# Altium schematic symbol library SCH - MCU - STM32 - ST MICROELECTRONICS STM32F217I(E-G)HX UFBGA176.SchLib: 1 symbol
Pins are listed as number, name and electrical type; pins without a type are passive.

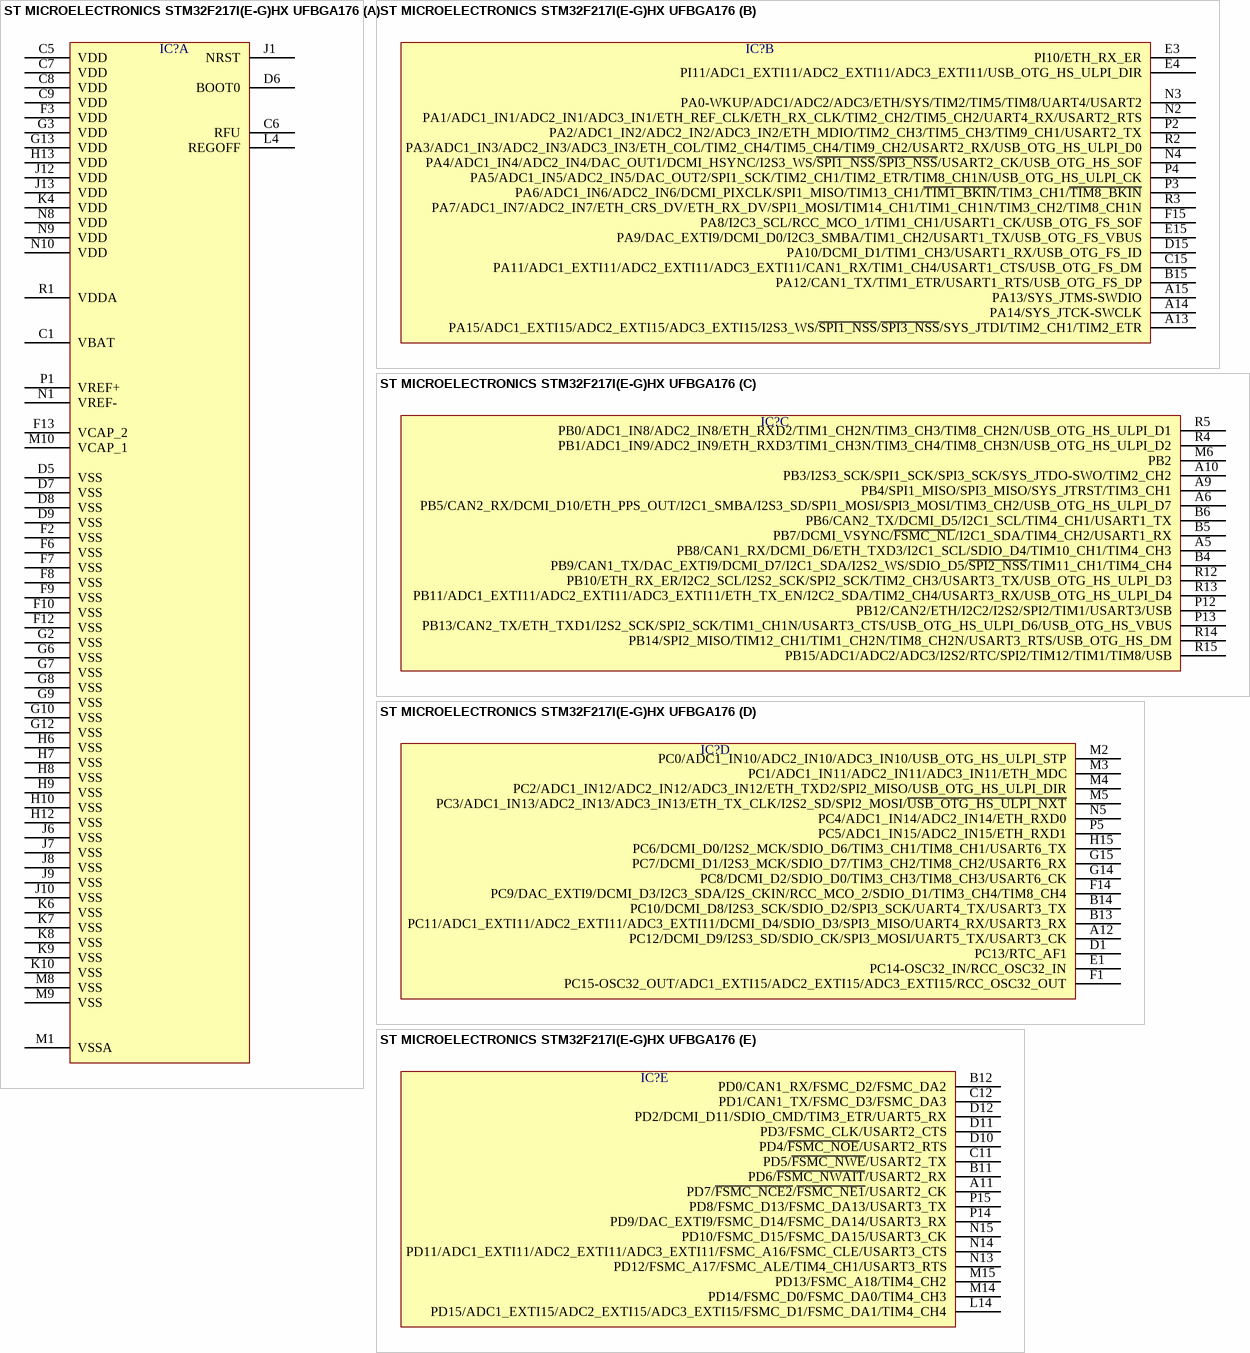
[diagram p0: symbol ST MICROELECTRONICS STM32F217I(E-G)HX UFBGA176]

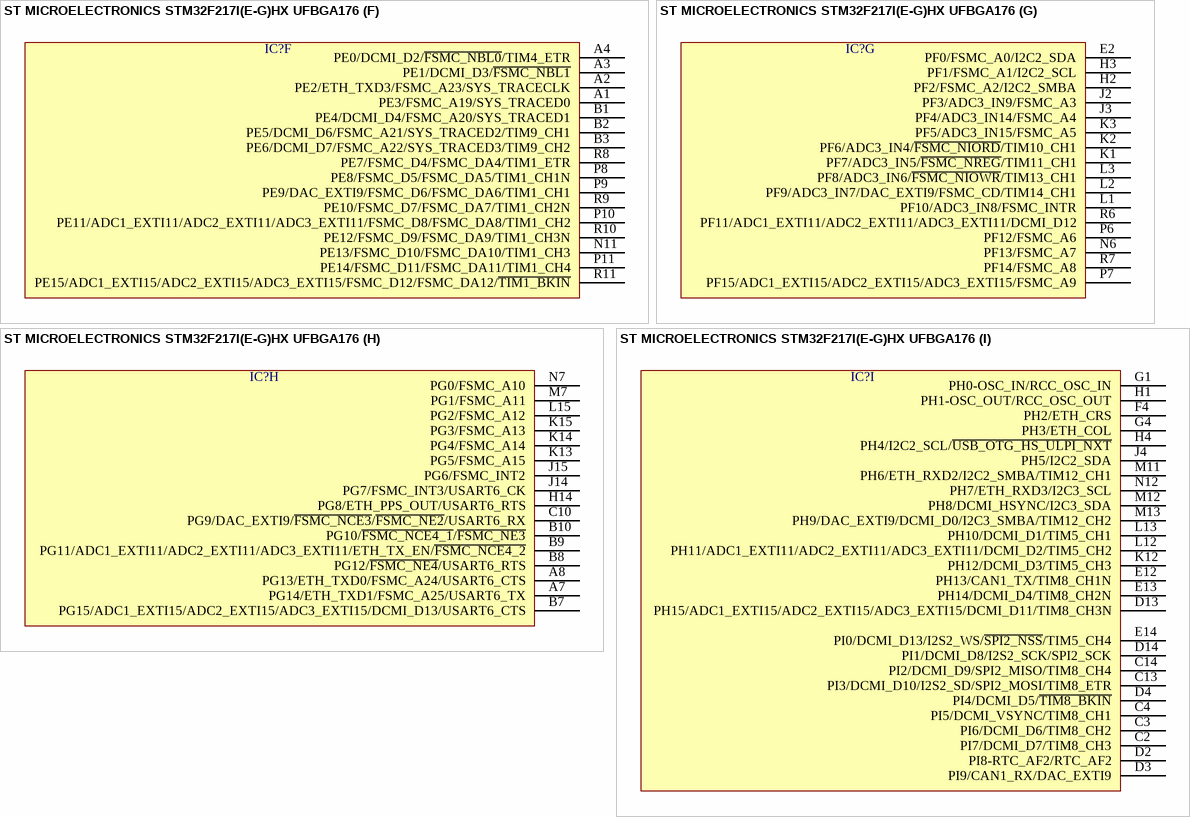
[diagram p1: symbol ST MICROELECTRONICS STM32F217I(E-G)HX UFBGA176]

## ST MICROELECTRONICS STM32F217I(E-G)HX UFBGA176
designator IC?  (value not drawn)
part A pins: C1 VBAT, C5 VDD, C6 RFU, C7 VDD, C8 VDD, C9 VDD, D5 VSS, D6 BOOT0, D7 VSS, D8 VSS, D9 VSS, F2 VSS, F3 VDD, F6 VSS, F7 VSS, F8 VSS, F9 VSS, F10 VSS, F12 VSS, F13 VCAP_2, G2 VSS, G3 VDD, G6 VSS, G7 VSS, G8 VSS, G9 VSS, G10 VSS, G12 VSS, G13 VDD, H6 VSS, H7 VSS, H8 VSS, H9 VSS, H10 VSS, H12 VSS, H13 VDD, J1 NRST, J6 VSS, J7 VSS, J8 VSS, J9 VSS, J10 VSS, J12 VDD, J13 VDD, K4 VDD, K6 VSS, K7 VSS, K8 VSS, K9 VSS, K10 VSS, L4 REGOFF, M1 VSSA, M8 VSS, M9 VSS, M10 VCAP_1, N1 VREF-, N8 VDD, N9 VDD, N10 VDD, P1 VREF+, R1 VDDA
part B pins: A13 PA15/ADC1_EXTI15/ADC2_EXTI15/ADC3_EXTI15/I2S3_WS/~{SPI1_NSS}/~{SPI3_NSS}/SYS_JTDI/TIM2_CH1/TIM2_ETR, A14 PA14/SYS_JTCK-SWCLK, A15 PA13/SYS_JTMS-SWDIO, B15 PA12/CAN1_TX/TIM1_ETR/USART1_RTS/USB_OTG_FS_DP, C15 PA11/ADC1_EXTI11/ADC2_EXTI11/ADC3_EXTI11/CAN1_RX/TIM1_CH4/USART1_CTS/USB_OTG_FS_DM, D15 PA10/DCMI_D1/TIM1_CH3/USART1_RX/USB_OTG_FS_ID, E3 PI10/ETH_RX_ER, E4 PI11/ADC1_EXTI11/ADC2_EXTI11/ADC3_EXTI11/USB_OTG_HS_ULPI_DIR, E15 PA9/DAC_EXTI9/DCMI_D0/I2C3_SMBA/TIM1_CH2/USART1_TX/USB_OTG_FS_VBUS, F15 PA8/I2C3_SCL/RCC_MCO_1/TIM1_CH1/USART1_CK/USB_OTG_FS_SOF, N2 PA1/ADC1_IN1/ADC2_IN1/ADC3_IN1/ETH_REF_CLK/ETH_RX_CLK/TIM2_CH2/TIM5_CH2/UART4_RX/USART2_RTS, N3 PA0-WKUP/ADC1/ADC2/ADC3/ETH/SYS/TIM2/TIM5/TIM8/UART4/USART2, N4 PA4/ADC1_IN4/ADC2_IN4/DAC_OUT1/DCMI_HSYNC/I2S3_WS/~{SPI1_NSS}/~{SPI3_NSS}/USART2_CK/USB_OTG_HS_SOF, P2 PA2/ADC1_IN2/ADC2_IN2/ADC3_IN2/ETH_MDIO/TIM2_CH3/TIM5_CH3/TIM9_CH1/USART2_TX, P3 PA6/ADC1_IN6/ADC2_IN6/DCMI_PIXCLK/SPI1_MISO/TIM13_CH1/~{TIM1_BKIN}/TIM3_CH1/~{TIM8_BKIN}, P4 PA5/ADC1_IN5/ADC2_IN5/DAC_OUT2/SPI1_SCK/TIM2_CH1/TIM2_ETR/TIM8_CH1N/USB_OTG_HS_ULPI_CK, R2 PA3/ADC1_IN3/ADC2_IN3/ADC3_IN3/ETH_COL/TIM2_CH4/TIM5_CH4/TIM9_CH2/USART2_RX/USB_OTG_HS_ULPI_D0, R3 PA7/ADC1_IN7/ADC2_IN7/ETH_CRS_DV/ETH_RX_DV/SPI1_MOSI/TIM14_CH1/TIM1_CH1N/TIM3_CH2/TIM8_CH1N
part C pins: A5 PB8/CAN1_RX/DCMI_D6/ETH_TXD3/I2C1_SCL/SDIO_D4/TIM10_CH1/TIM4_CH3, A6 PB5/CAN2_RX/DCMI_D10/ETH_PPS_OUT/I2C1_SMBA/I2S3_SD/SPI1_MOSI/SPI3_MOSI/TIM3_CH2/USB_OTG_HS_ULPI_D7, A9 PB4/SPI1_MISO/SPI3_MISO/SYS_JTRST/TIM3_CH1, A10 PB3/I2S3_SCK/SPI1_SCK/SPI3_SCK/SYS_JTDO-SWO/TIM2_CH2, B4 PB9/CAN1_TX/DAC_EXTI9/DCMI_D7/I2C1_SDA/I2S2_WS/SDIO_D5/~{SPI2_NSS}/TIM11_CH1/TIM4_CH4, B5 PB7/DCMI_VSYNC/~{FSMC_NL}/I2C1_SDA/TIM4_CH2/USART1_RX, B6 PB6/CAN2_TX/DCMI_D5/I2C1_SCL/TIM4_CH1/USART1_TX, M6 PB2, P12 PB12/CAN2/ETH/I2C2/I2S2/SPI2/TIM1/USART3/USB, P13 PB13/CAN2_TX/ETH_TXD1/I2S2_SCK/SPI2_SCK/TIM1_CH1N/USART3_CTS/USB_OTG_HS_ULPI_D6/USB_OTG_HS_VBUS, R4 PB1/ADC1_IN9/ADC2_IN9/ETH_RXD3/TIM1_CH3N/TIM3_CH4/TIM8_CH3N/USB_OTG_HS_ULPI_D2, R5 PB0/ADC1_IN8/ADC2_IN8/ETH_RXD2/TIM1_CH2N/TIM3_CH3/TIM8_CH2N/USB_OTG_HS_ULPI_D1, R12 PB10/ETH_RX_ER/I2C2_SCL/I2S2_SCK/SPI2_SCK/TIM2_CH3/USART3_TX/USB_OTG_HS_ULPI_D3, R13 PB11/ADC1_EXTI11/ADC2_EXTI11/ADC3_EXTI11/ETH_TX_EN/I2C2_SDA/TIM2_CH4/USART3_RX/USB_OTG_HS_ULPI_D4, R14 PB14/SPI2_MISO/TIM12_CH1/TIM1_CH2N/TIM8_CH2N/USART3_RTS/USB_OTG_HS_DM, R15 PB15/ADC1/ADC2/ADC3/I2S2/RTC/SPI2/TIM12/TIM1/TIM8/USB
part D pins: A12 PC12/DCMI_D9/I2S3_SD/SDIO_CK/SPI3_MOSI/UART5_TX/USART3_CK, B13 PC11/ADC1_EXTI11/ADC2_EXTI11/ADC3_EXTI11/DCMI_D4/SDIO_D3/SPI3_MISO/UART4_RX/USART3_RX, B14 PC10/DCMI_D8/I2S3_SCK/SDIO_D2/SPI3_SCK/UART4_TX/USART3_TX, D1 PC13/RTC_AF1, E1 PC14-OSC32_IN/RCC_OSC32_IN, F1 PC15-OSC32_OUT/ADC1_EXTI15/ADC2_EXTI15/ADC3_EXTI15/RCC_OSC32_OUT, F14 PC9/DAC_EXTI9/DCMI_D3/I2C3_SDA/I2S_CKIN/RCC_MCO_2/SDIO_D1/TIM3_CH4/TIM8_CH4, G14 PC8/DCMI_D2/SDIO_D0/TIM3_CH3/TIM8_CH3/USART6_CK, G15 PC7/DCMI_D1/I2S3_MCK/SDIO_D7/TIM3_CH2/TIM8_CH2/USART6_RX, H15 PC6/DCMI_D0/I2S2_MCK/SDIO_D6/TIM3_CH1/TIM8_CH1/USART6_TX, M2 PC0/ADC1_IN10/ADC2_IN10/ADC3_IN10/USB_OTG_HS_ULPI_STP, M3 PC1/ADC1_IN11/ADC2_IN11/ADC3_IN11/ETH_MDC, M4 PC2/ADC1_IN12/ADC2_IN12/ADC3_IN12/ETH_TXD2/SPI2_MISO/USB_OTG_HS_ULPI_DIR, M5 PC3/ADC1_IN13/ADC2_IN13/ADC3_IN13/ETH_TX_CLK/I2S2_SD/SPI2_MOSI/~{USB_OTG_HS_ULPI_NXT}, N5 PC4/ADC1_IN14/ADC2_IN14/ETH_RXD0, P5 PC5/ADC1_IN15/ADC2_IN15/ETH_RXD1
part E pins: A11 PD7/~{FSMC_NCE2}/~{FSMC_NE1}/USART2_CK, B11 PD6/~{FSMC_NWAIT}/USART2_RX, B12 PD0/CAN1_RX/FSMC_D2/FSMC_DA2, C11 PD5/~{FSMC_NWE}/USART2_TX, C12 PD1/CAN1_TX/FSMC_D3/FSMC_DA3, D10 PD4/~{FSMC_NOE}/USART2_RTS, D11 PD3/FSMC_CLK/USART2_CTS, D12 PD2/DCMI_D11/SDIO_CMD/TIM3_ETR/UART5_RX, L14 PD15/ADC1_EXTI15/ADC2_EXTI15/ADC3_EXTI15/FSMC_D1/FSMC_DA1/TIM4_CH4, M14 PD14/FSMC_D0/FSMC_DA0/TIM4_CH3, M15 PD13/FSMC_A18/TIM4_CH2, N13 PD12/FSMC_A17/FSMC_ALE/TIM4_CH1/USART3_RTS, N14 PD11/ADC1_EXTI11/ADC2_EXTI11/ADC3_EXTI11/FSMC_A16/FSMC_CLE/USART3_CTS, N15 PD10/FSMC_D15/FSMC_DA15/USART3_CK, P14 PD9/DAC_EXTI9/FSMC_D14/FSMC_DA14/USART3_RX, P15 PD8/FSMC_D13/FSMC_DA13/USART3_TX
part F pins: A1 PE3/FSMC_A19/SYS_TRACED0, A2 PE2/ETH_TXD3/FSMC_A23/SYS_TRACECLK, A3 PE1/DCMI_D3/~{FSMC_NBL1}, A4 PE0/DCMI_D2/~{FSMC_NBL0}/TIM4_ETR, B1 PE4/DCMI_D4/FSMC_A20/SYS_TRACED1, B2 PE5/DCMI_D6/FSMC_A21/SYS_TRACED2/TIM9_CH1, B3 PE6/DCMI_D7/FSMC_A22/SYS_TRACED3/TIM9_CH2, N11 PE13/FSMC_D10/FSMC_DA10/TIM1_CH3, P8 PE8/FSMC_D5/FSMC_DA5/TIM1_CH1N, P9 PE9/DAC_EXTI9/FSMC_D6/FSMC_DA6/TIM1_CH1, P10 PE11/ADC1_EXTI11/ADC2_EXTI11/ADC3_EXTI11/FSMC_D8/FSMC_DA8/TIM1_CH2, P11 PE14/FSMC_D11/FSMC_DA11/TIM1_CH4, R8 PE7/FSMC_D4/FSMC_DA4/TIM1_ETR, R9 PE10/FSMC_D7/FSMC_DA7/TIM1_CH2N, R10 PE12/FSMC_D9/FSMC_DA9/TIM1_CH3N, R11 PE15/ADC1_EXTI15/ADC2_EXTI15/ADC3_EXTI15/FSMC_D12/FSMC_DA12/~{TIM1_BKIN}
part G pins: E2 PF0/FSMC_A0/I2C2_SDA, H2 PF2/FSMC_A2/I2C2_SMBA, H3 PF1/FSMC_A1/I2C2_SCL, J2 PF3/ADC3_IN9/FSMC_A3, J3 PF4/ADC3_IN14/FSMC_A4, K1 PF7/ADC3_IN5/~{FSMC_NREG}/TIM11_CH1, K2 PF6/ADC3_IN4/~{FSMC_NIORD}/TIM10_CH1, K3 PF5/ADC3_IN15/FSMC_A5, L1 PF10/ADC3_IN8/FSMC_INTR, L2 PF9/ADC3_IN7/DAC_EXTI9/FSMC_CD/TIM14_CH1, L3 PF8/ADC3_IN6/~{FSMC_NIOWR}/TIM13_CH1, N6 PF13/FSMC_A7, P6 PF12/FSMC_A6, P7 PF15/ADC1_EXTI15/ADC2_EXTI15/ADC3_EXTI15/FSMC_A9, R6 PF11/ADC1_EXTI11/ADC2_EXTI11/ADC3_EXTI11/DCMI_D12, R7 PF14/FSMC_A8
part H pins: A7 PG14/ETH_TXD1/FSMC_A25/USART6_TX, A8 PG13/ETH_TXD0/FSMC_A24/USART6_CTS, B7 PG15/ADC1_EXTI15/ADC2_EXTI15/ADC3_EXTI15/DCMI_D13/USART6_CTS, B8 PG12/~{FSMC_NE4}/USART6_RTS, B9 PG11/ADC1_EXTI11/ADC2_EXTI11/ADC3_EXTI11/ETH_TX_EN/~{FSMC_NCE4_2}, B10 PG10/~{FSMC_NCE4_1}/~{FSMC_NE3}, C10 PG9/DAC_EXTI9/~{FSMC_NCE3}/~{FSMC_NE2}/USART6_RX, H14 PG8/ETH_PPS_OUT/USART6_RTS, J14 PG7/FSMC_INT3/USART6_CK, J15 PG6/FSMC_INT2, K13 PG5/FSMC_A15, K14 PG4/FSMC_A14, K15 PG3/FSMC_A13, L15 PG2/FSMC_A12, M7 PG1/FSMC_A11, N7 PG0/FSMC_A10
part I pins: C2 PI7/DCMI_D7/TIM8_CH3, C3 PI6/DCMI_D6/TIM8_CH2, C4 PI5/DCMI_VSYNC/TIM8_CH1, C13 PI3/DCMI_D10/I2S2_SD/SPI2_MOSI/TIM8_ETR, C14 PI2/DCMI_D9/SPI2_MISO/TIM8_CH4, D2 PI8-RTC_AF2/RTC_AF2, D3 PI9/CAN1_RX/DAC_EXTI9, D4 PI4/DCMI_D5/~{TIM8_BKIN}, D13 PH15/ADC1_EXTI15/ADC2_EXTI15/ADC3_EXTI15/DCMI_D11/TIM8_CH3N, D14 PI1/DCMI_D8/I2S2_SCK/SPI2_SCK, E12 PH13/CAN1_TX/TIM8_CH1N, E13 PH14/DCMI_D4/TIM8_CH2N, E14 PI0/DCMI_D13/I2S2_WS/~{SPI2_NSS}/TIM5_CH4, F4 PH2/ETH_CRS, G1 PH0-OSC_IN/RCC_OSC_IN, G4 PH3/ETH_COL, H1 PH1-OSC_OUT/RCC_OSC_OUT, H4 PH4/I2C2_SCL/~{USB_OTG_HS_ULPI_NXT}, J4 PH5/I2C2_SDA, K12 PH12/DCMI_D3/TIM5_CH3, L12 PH11/ADC1_EXTI11/ADC2_EXTI11/ADC3_EXTI11/DCMI_D2/TIM5_CH2, L13 PH10/DCMI_D1/TIM5_CH1, M11 PH6/ETH_RXD2/I2C2_SMBA/TIM12_CH1, M12 PH8/DCMI_HSYNC/I2C3_SDA, M13 PH9/DAC_EXTI9/DCMI_D0/I2C3_SMBA/TIM12_CH2, N12 PH7/ETH_RXD3/I2C3_SCL